# Altium footprint library FOC.PcbLib: 34 footprints (part 2 of 3)
Each footprint in its own frame and in the unit in brackets; x right, y up, seen from the top. Pads: shape width x height; smd on the part's side, far side on the other; paste and mask are expansions set on the pad; w line width, h text height; cw(c..) or ccw(c..) is an arc to the next point about the centre after c.
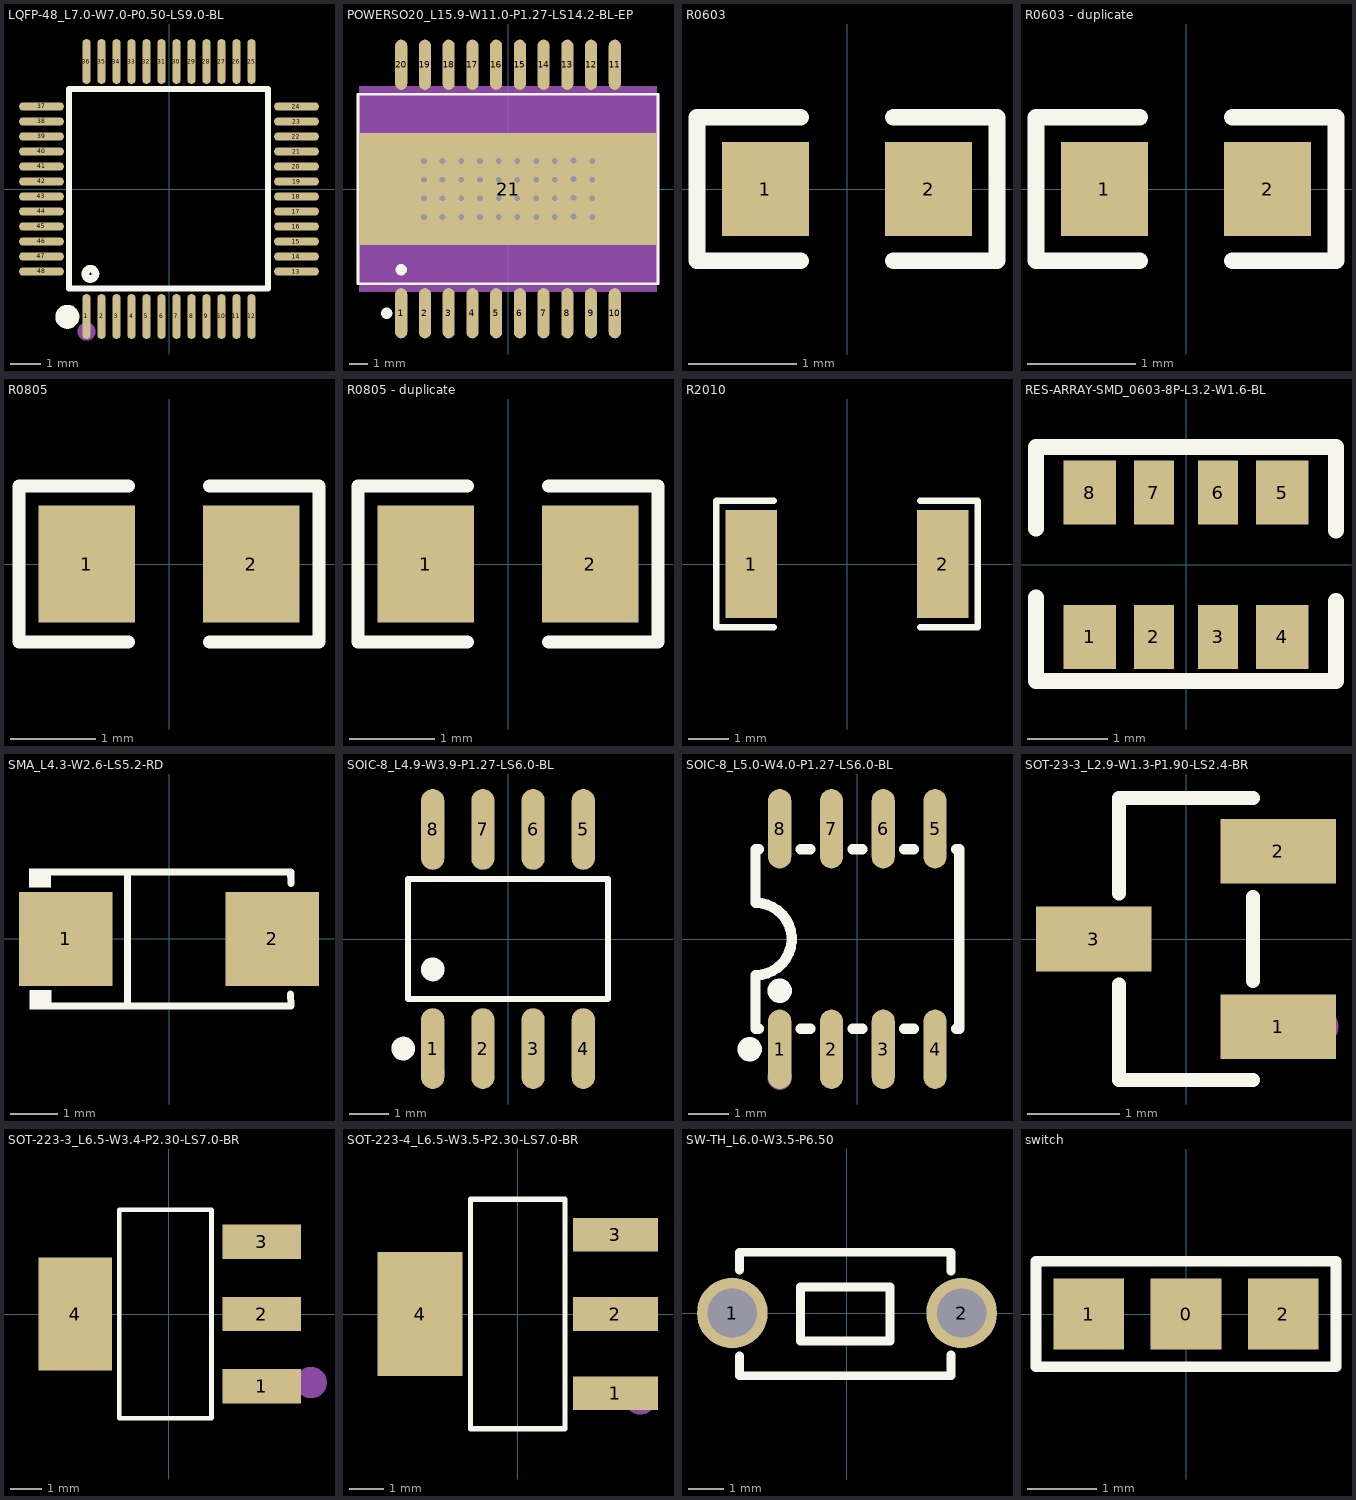
[diagram p1: the footprints below, top view; thin cyan lines are the x and y axes]

## LQFP-48_L7.0-W7.0-P0.50-LS9.0-BL [mm]
pads (48):
  oval 0.27x1.5 smd: 1(-2.75,-4.25) 2(-2.25,-4.25) 3(-1.75,-4.25) 4(-1.25,-4.25) 5(-0.75,-4.25) 6(-0.25,-4.25) 7(0.25,-4.25) 8(0.75,-4.25) 9(1.25,-4.25) 10(1.75,-4.25) 11(2.25,-4.25) 12(2.75,-4.25) 25(2.75,4.25) 26(2.25,4.25) 27(1.75,4.25) 28(1.25,4.25) 29(0.75,4.25) 30(0.25,4.25) 31(-0.25,4.25) 32(-0.75,4.25) 33(-1.25,4.25) 34(-1.75,4.25) 35(-2.25,4.25) 36(-2.75,4.25)
  oval 1.5x0.27 smd: 13(4.25,-2.75) 14(4.25,-2.25) 15(4.25,-1.75) 16(4.25,-1.25) 17(4.25,-0.75) 18(4.25,-0.25) 19(4.25,0.25) 20(4.25,0.75) 21(4.25,1.25) 22(4.25,1.75) 23(4.25,2.25) 24(4.25,2.75) 37(-4.25,2.75) 38(-4.25,2.25) 39(-4.25,1.75) 40(-4.25,1.25) 41(-4.25,0.75) 42(-4.25,0.25) 43(-4.25,-0.25) 44(-4.25,-0.75) 45(-4.25,-1.25) 46(-4.25,-1.75) 47(-4.25,-2.25) 48(-4.25,-2.75)
Top Overlay:
  circle w0.254: c-2.62,-2.83 r0.17
  lines w0.2: -2.896,3.34 3.302,3.34 3.302,-3.315 -3.327,-3.315 -3.327,3.34 -2.565,3.34
  lines w0.4: -3.39,-4.06 ccw(c-3.389,-4.26) -3.387,-4.06
Mechanical 15:
  circle w0.3: c-2.75,-4.75 r0.15

## POWERSO20_L15.9-W11.0-P1.27-LS14.2-BL-EP [mm]
pads (21):
  oval 0.651x2.694 smd: 1(-5.715,-6.648) 2(-4.445,-6.648) 3(-3.175,-6.648) 4(-1.905,-6.648) 5(-0.635,-6.648) 6(0.635,-6.648) 7(1.905,-6.648) 8(3.175,-6.648) 9(4.445,-6.648) 10(5.715,-6.648) 11(5.715,6.648) 12(4.445,6.648) 13(3.175,6.648) 14(1.905,6.648) 15(0.635,6.648) 16(-0.635,6.648) 17(-1.905,6.648) 18(-3.175,6.648) 19(-4.445,6.648) 20(-5.715,6.648)
  rect 15.9x6 smd: 21(0,0)
via -4.5,1.5 diameter 0.61 hole 0.305
via -3.5,1.5 diameter 0.61 hole 0.305
via -2.5,1.5 diameter 0.61 hole 0.305
via -1.5,1.5 diameter 0.61 hole 0.305
via -0.5,1.5 diameter 0.61 hole 0.305
via 0.5,1.5 diameter 0.61 hole 0.305
via 1.515,1.5 diameter 0.61 hole 0.305
via 2.5,1.5 diameter 0.61 hole 0.305
via 3.5,1.53 diameter 0.61 hole 0.305
via 4.5,1.5 diameter 0.61 hole 0.305
via -4.5,0.5 diameter 0.61 hole 0.305
via -3.5,0.5 diameter 0.61 hole 0.305
via -2.5,0.5 diameter 0.61 hole 0.305
via -1.5,0.5 diameter 0.61 hole 0.305
via -0.5,0.5 diameter 0.61 hole 0.305
via 0.5,0.5 diameter 0.61 hole 0.305
via 1.515,0.5 diameter 0.61 hole 0.305
via 2.5,0.5 diameter 0.61 hole 0.305
via 3.5,0.53 diameter 0.61 hole 0.305
via 4.5,0.5 diameter 0.61 hole 0.305
via -4.5,-0.5 diameter 0.61 hole 0.305
via -3.5,-0.5 diameter 0.61 hole 0.305
via -2.5,-0.5 diameter 0.61 hole 0.305
via -1.5,-0.5 diameter 0.61 hole 0.305
via -0.5,-0.5 diameter 0.61 hole 0.305
via 0.5,-0.5 diameter 0.61 hole 0.305
via 1.515,-0.5 diameter 0.61 hole 0.305
via 2.5,-0.5 diameter 0.61 hole 0.305
via 3.5,-0.47 diameter 0.61 hole 0.305
via 4.5,-0.5 diameter 0.61 hole 0.305
via -4.5,-1.5 diameter 0.61 hole 0.305
via -3.5,-1.5 diameter 0.61 hole 0.305
via -2.5,-1.5 diameter 0.61 hole 0.305
via -1.5,-1.5 diameter 0.61 hole 0.305
via -0.5,-1.5 diameter 0.61 hole 0.305
via 0.5,-1.5 diameter 0.61 hole 0.305
via 1.515,-1.5 diameter 0.61 hole 0.305
via 2.5,-1.5 diameter 0.61 hole 0.305
via 3.5,-1.47 diameter 0.61 hole 0.305
via 4.5,-1.5 diameter 0.61 hole 0.305
Top Overlay:
  circle w0.3: c-6.493,-6.648 r0.15
  circle w0.3: c-5.715,-4.319 r0.15
  lines w0.152: -8.026,-5.071 8.026,-5.071 8.026,5.071 -8.026,5.071 -8.026,-5.071
Mechanical 4:
  region: -7.95,-5.5 -7.95,5.5 7.95,5.5 7.95,-5.5
Mechanical 5:
  drawing of 41 lines, arcs and shapes, not listed
Mechanical 15:
  circle w0.3: c-5.715,-7.5 r0.15

## R0603 [mm]
pads (2):
  rect 0.806x0.864 smd: 1(-0.753,0) 2(0.753,0)
Top Overlay:
  lines w0.152: -0.426,-0.661 -1.385,-0.661 -1.385,0.661 -0.426,0.661 ; 0.426,-0.661 1.385,-0.661 1.385,0.661 0.426,0.661
Top Paste:
  region: -0.355,0.4 -0.355,0.172 -0.735,0.172 -0.735,-0.158 -0.355,-0.158 -0.355,-0.4 -0.405,-0.45 -1.195,-0.45 -1.245,-0.4 -1.245,0.4 -1.195,0.45 -0.405,0.45
  region: 1.195,0.45 0.395,0.45 0.345,0.4 0.345,0.172 0.715,0.172 0.715,-0.158 0.345,-0.158 0.345,-0.4 0.395,-0.45 1.195,-0.45 1.245,-0.4 1.245,0.4

## R0603 - duplicate [mm]
pads (2):
  rect 0.806x0.864 smd: 1(-0.753,0) 2(0.753,0)
Top Overlay:
  lines w0.152: -0.426,-0.661 -1.385,-0.661 -1.385,0.661 -0.426,0.661 ; 0.426,-0.661 1.385,-0.661 1.385,0.661 0.426,0.661
Top Paste:
  region: 1.195,0.45 0.395,0.45 0.345,0.4 0.345,0.172 0.715,0.172 0.715,-0.158 0.345,-0.158 0.345,-0.4 0.395,-0.45 1.195,-0.45 1.245,-0.4 1.245,0.4
  region: -0.355,0.4 -0.355,0.172 -0.735,0.172 -0.735,-0.158 -0.355,-0.158 -0.355,-0.4 -0.405,-0.45 -1.195,-0.45 -1.245,-0.4 -1.245,0.4 -1.195,0.45 -0.405,0.45

## R0805 [mm]
pads (2):
  rect 1.133x1.377 smd: 1(-0.966,0) 2(0.966,0)
Top Overlay:
  lines w0.152: -0.476,-0.917 -1.761,-0.917 -1.761,0.917 -0.476,0.917 ; 0.476,-0.917 1.761,-0.917 1.761,0.917 0.476,0.917
Top Paste:
  region: 0.45,-0.64 0.45,-0.22 0.895,-0.22 0.895,0.23 0.455,0.23 0.45,0.64 0.5,0.69 1.65,0.69 1.7,0.64 1.7,-0.64 1.65,-0.69 0.5,-0.69
  region: -1.7,-0.64 -1.7,0.64 -1.65,0.69 -0.5,0.69 -0.45,0.64 -0.445,0.23 -0.895,0.23 -0.895,-0.22 -0.455,-0.22 -0.45,-0.64 -0.5,-0.69 -1.65,-0.69

## R0805 - duplicate [mm]
pads (2):
  rect 1.133x1.377 smd: 1(-0.966,0) 2(0.966,0)
Top Overlay:
  lines w0.152: -0.476,-0.917 -1.761,-0.917 -1.761,0.917 -0.476,0.917 ; 0.476,-0.917 1.761,-0.917 1.761,0.917 0.476,0.917
Top Paste:
  region: 0.45,-0.64 0.45,-0.22 0.895,-0.22 0.895,0.23 0.455,0.23 0.45,0.64 0.5,0.69 1.65,0.69 1.7,0.64 1.7,-0.64 1.65,-0.69 0.5,-0.69
  region: -1.7,-0.64 -1.7,0.64 -1.65,0.69 -0.5,0.69 -0.45,0.64 -0.445,0.23 -0.895,0.23 -0.895,-0.22 -0.455,-0.22 -0.45,-0.64 -0.5,-0.69 -1.65,-0.69

## R2010 [mm]
pads (2):
  rect 1.283x2.7 smd: 1(-2.391,0) 2(2.391,0)
Top Overlay:
  lines w0.152: -1.826,-1.579 -3.261,-1.579 -3.261,1.579 -1.826,1.579 ; 1.826,-1.579 3.261,-1.579 3.261,1.579 1.826,1.579
Top Paste:
  region: -1.75,-1.25 -1.75,-0.559 -1.85,-0.459 -2.086,-0.459 -2.186,-0.359 -2.186,0.359 -2.086,0.459 -1.85,0.459 -1.75,0.559 -1.75,1.25 -1.85,1.35 -2.933,1.35 -3.033,1.25 -3.033,-1.25 -2.933,-1.35 -1.85,-1.35
  region: 1.75,-1.25 1.75,-0.559 1.85,-0.459 2.086,-0.459 2.186,-0.359 2.186,0.359 2.086,0.459 1.85,0.459 1.75,0.559 1.75,1.25 1.85,1.35 2.933,1.35 3.033,1.25 3.033,-1.25 2.933,-1.35 1.85,-1.35

## RES-ARRAY-SMD_0603-8P-L3.2-W1.6-BL [mm]
pads (8):
  rect 0.65x0.8 smd: 1(-1.2,-0.9) 4(1.2,-0.9) 5(1.2,0.9) 8(-1.2,0.9)
  rect 0.5x0.8 smd: 2(-0.4,-0.9) 3(0.4,-0.9) 6(0.4,0.9) 7(-0.4,0.9)
Top Overlay:
  lines w0.2: -1.87,-0.41 -1.87,-1.45 1.87,-1.45 1.87,-0.45 ; -1.87,0.45 -1.87,1.47 1.87,1.47 1.87,0.43

## SMA_L4.3-W2.6-LS5.2-RD [mm]
pads (2):
  rect 2x2 smd: 1(-2.2,0) 2(2.2,0)
Top Overlay:
  region: -2.52,1.502 -2.521,1.096 -2.981,1.1 -2.977,1.502
  region: -2.512,-1.096 -2.513,-1.503 -2.973,-1.498 -2.969,-1.096
  lines w0.152: -2.596,-1.426 2.596,-1.426 ; -2.596,1.426 2.596,1.426 2.603,1.187 ; -0.884,-1.426 -0.884,1.426 ; 2.593,-1.176 2.6,-1.415
Mechanical 15:
  region: -2.317,-0.101 -2.317,0.101 -1.507,0.101 -1.507,-0.101
  region: 2.317,-0.101 2.317,0.101 1.507,0.101 1.507,-0.101
  region: 2.014,-0.675 2.014,0.675 1.811,0.675 1.811,-0.675

## SOIC-8_L4.9-W3.9-P1.27-LS6.0-BL [mm]
pads (8):
  oval 0.588x2.045 smd: 1(-1.905,-2.773) 2(-0.635,-2.773) 3(0.635,-2.773) 4(1.905,-2.773) 5(1.905,2.773) 6(0.635,2.773) 7(-0.635,2.773) 8(-1.905,2.773)
Top Overlay:
  circle w0.3: c-2.652,-2.772 r0.15
  circle w0.3: c-1.905,-0.769 r0.15
  lines w0.152: -2.526,-1.521 2.526,-1.521 2.526,1.521 -2.526,1.521 -2.526,-1.521
Mechanical 15:
  circle w0.3: c-1.905,-3.4 r0.15

## SOIC-8_L5.0-W4.0-P1.27-LS6.0-BL [mil]
pads (8):
  oval 22.38x76.78 smd: 1(-75,-106.5) 2(-25,-106.5) 3(25,-106.5) 4(75,-106.5) 5(75,106.5) 6(25,106.5) 7(-25,106.5) 8(-75,106.5)
Top Overlay:
  circle w11.81: c-75,-50 r5.91
  circle w11.81: c-104,-106.5 r5.91
  lines w10: -98.43,-35 ccw(c-98.41,0) -98.4,35 -98.42,86.61 -95.29,86.61 ; -98.42,-35 -98.42,-86.61 -95.29,-86.61 ; -54.71,-86.61 -45.29,-86.61 ; -54.71,86.61 -45.29,86.61 ; -4.71,-86.61 4.71,-86.61 ; -4.71,86.61 4.71,86.61 ; 45.29,-86.61 54.71,-86.61 ; 45.29,86.61 54.71,86.61 ; 95.29,-86.61 98.42,-86.61 98.42,86.61 95.29,86.61
Mechanical 15:
  circle w11.81: c-75,-133.86 r5.91

## SOT-23-3_L2.9-W1.3-P1.90-LS2.4-BR [mm]
pads (3):
  rect 1.25x0.7 smd: 1(1,-0.95) 2(1,0.95) 3(-1,0)
Top Overlay:
  lines w0.152: -0.726,-0.495 -0.726,-1.526 0.726,-1.526 ; -0.726,0.495 -0.726,1.526 0.726,1.526 ; 0.726,-0.455 0.726,0.455
Mechanical 15:
  circle w0.2: c1.45,-0.95 r0.1

## SOT-223-3_L6.5-W3.4-P2.30-LS7.0-BR [mm]
pads (4):
  rect 2.5x1.1 smd: 1(2.97,-2.3) 2(2.97,0) 3(2.97,2.3)
  rect 2.34x3.6 smd: 4(-2.97,0)
Top Overlay:
  lines w0.152: -1.571,-3.326 -1.571,3.326 1.371,3.326 1.371,-3.326 -1.571,-3.326
Mechanical 15:
  circle w0.5: c4.552,-2.188 r0.25

## SOT-223-4_L6.5-W3.5-P2.30-LS7.0-BR [mm]
pads (4):
  rect 2.47x0.98 smd: 1(2.835,-2.3) 2(2.835,0) 3(2.835,2.3)
  rect 2.47x3.6 smd: 4(-2.835,0)
Top Overlay:
  lines w0.152: -1.371,-3.326 1.371,-3.326 1.371,3.326 -1.371,3.326 -1.371,-3.326
Mechanical 15:
  circle w0.5: c3.556,-2.413 r0.25

## SW-TH_L6.0-W3.5-P6.50 [mm]
pads (2):
  round 2 hole 1.4: 1(-3.25,0) 2(3.25,0)
Top Overlay:
  lines w0.254: -3.048,-1.215 -3.048,-1.778 2.952,-1.778 2.952,-1.194 ; -3.048,1.214 -3.048,1.722 2.952,1.722 2.952,1.194 ; -1.318,-0.79 1.222,-0.79 1.222,0.734 -1.318,0.734 -1.318,-0.79

## switch [mil]
pads (3):
  rect 40x40 smd: 0(0,0) 1(-55,0) 2(55,0)
Top Overlay:
  lines w6: -85,-30 -85,30 85,30 85,-30 -85,-30